# Altium schematic symbol library IRF640PBF.SchLib: 1 symbol
Pins are listed as number, name and electrical type; pins without a type are passive.

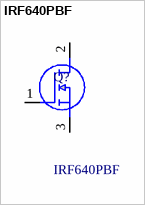
[diagram p0: symbol IRF640PBF]

## IRF640PBF
designator Q?
Manufacturer_Name: Vishay; Geometry.Height: 4.65mm; Mouser Part Number: 844-IRF640PBF; Mouser Price/Stock: https://www.mouser.co.uk/ProductDetail/Vishay-Semiconductors/IRF640PBF?qs=%2FRKvNCQzLu1wtfVHcmZw0A%3D%3D; Manufacturer_Part_Number: IRF640PBF; Description: IRF640PBF; Datasheet Link: *
footprint TO254P465X1024X2050-3P
pins: 1 G, 2 D, 3 S